# Altium footprint library WR-WTB.PcbLib: 259 footprints (part 7 of 17)
Each footprint in its own frame and in the unit in brackets; x right, y up, seen from the top. Pads: shape width x height; smd on the part's side, far side on the other; paste and mask are expansions set on the pad; w line width, h text height; cw(c..) or ccw(c..) is an arc to the next point about the centre after c.
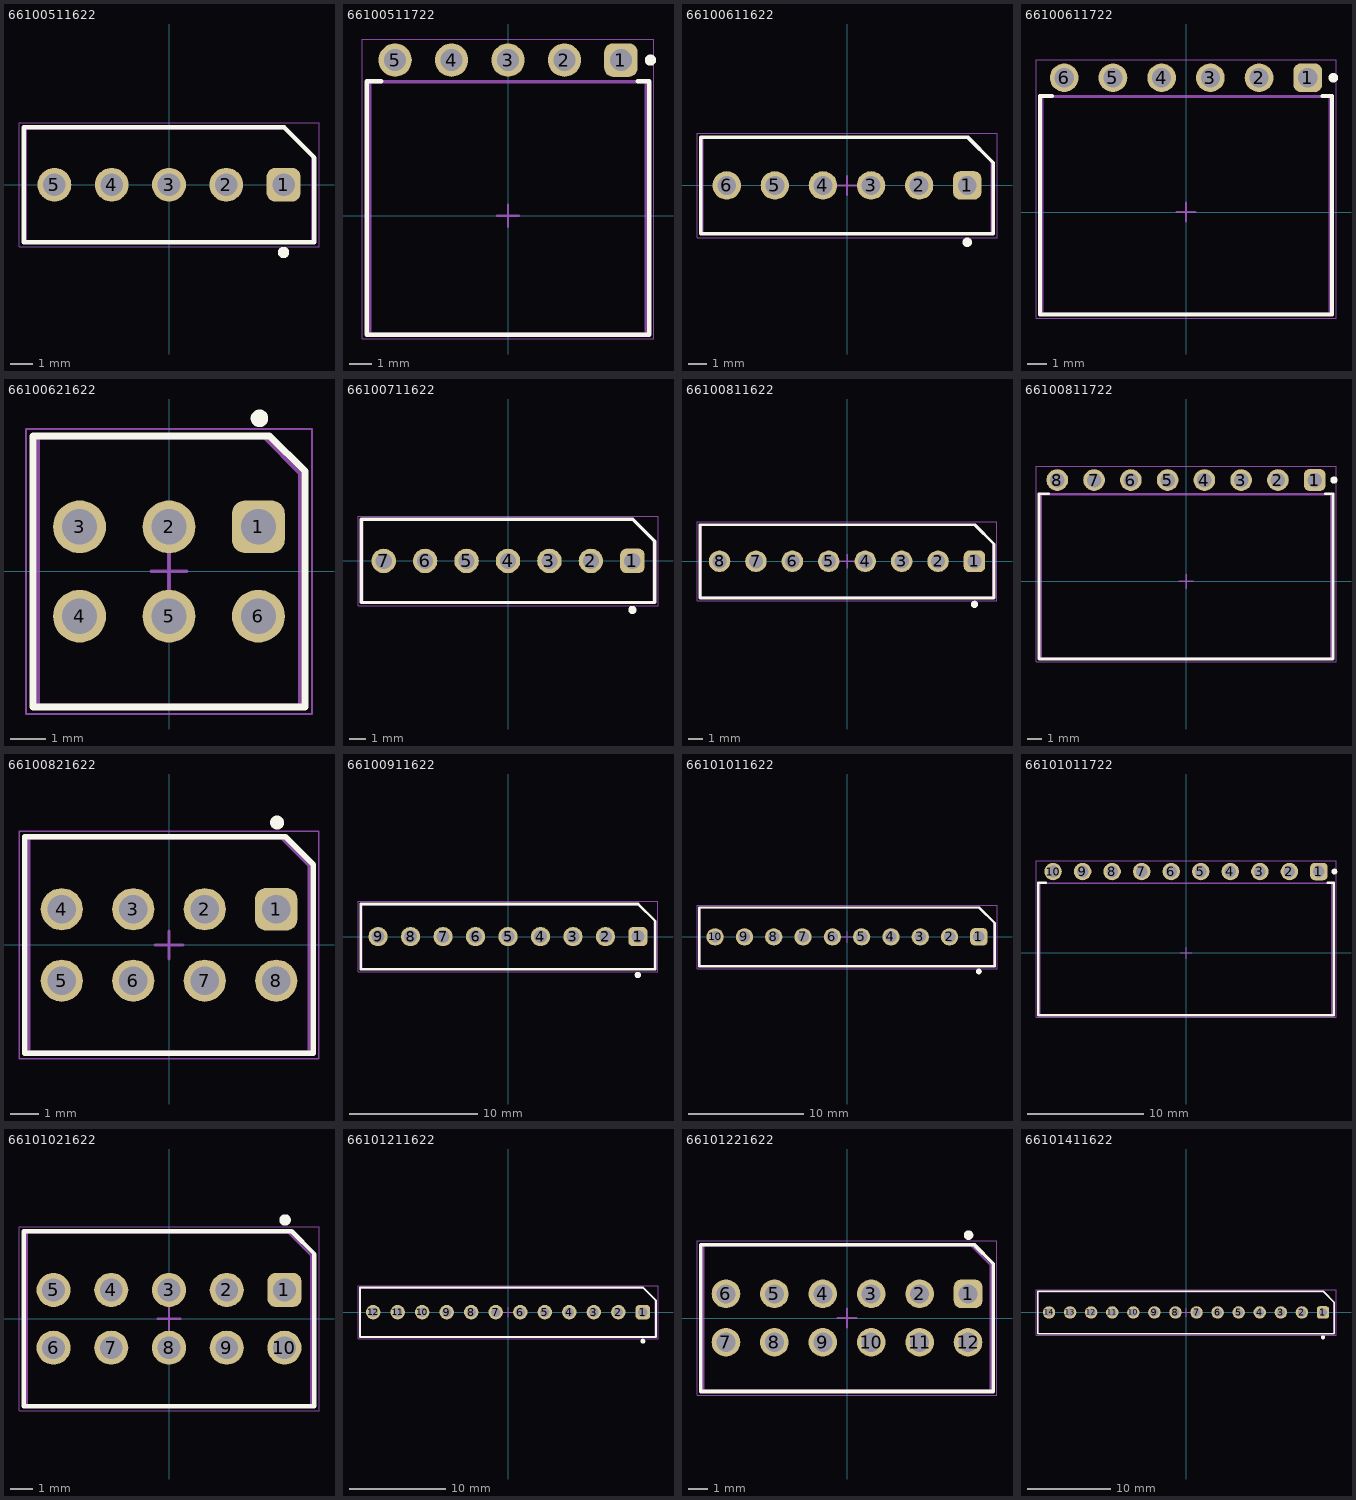
[diagram p6: the footprints below, top view; thin cyan lines are the x and y axes]

## 66100511622 [mm] "2.54 mm Intercom Male Horizontal Shrouded Header, 5p"
height 11.3
pads (5):
  rrect50% 1.5x1.5 hole 1: 1(5.08,0)
  round 1.5 hole 1: 2(2.54,0) 3(0,0) 4(-2.54,0) 5(-5.08,0)
Top Overlay:
  circle w0.25: c5.08,-3 r0.125
  lines w0.2: -6.45,-2.55 -6.45,2.55 5.1,2.55 6.45,1.2 6.45,-2.55 -6.45,-2.55
Top Assembly:
  lines w0.1: -6.35,-2.5 6.35,-2.5 6.35,1.3 5.15,2.5 -6.35,2.5 -6.35,-2.5
Top Designator:
  text ".Designator" at -3.647,-0.357 h1
Top Courtyard:
  lines w0.05: -6.65,-2.75 -6.65,2.75 6.65,2.75 6.65,-2.75 -6.65,-2.75
Top Component Center:
  lines w0.1: -0.5,0 0.5,0 ; 0,-0.5 0,0.5
3D body "66100511622.stp": height 11.33, standoff -2.97, extent -6.2,-2.5 6.2,2.5

## 66100511722 [mm] "2.54 mm Intercom Male Right Angled Shrouded Locking Header, 5p"
height 5
pads (5):
  rrect50% 1.5x1.5 hole 1: 1(5.08,7)
  round 1.5 hole 1: 2(2.54,7) 3(0,7) 4(-2.54,7) 5(-5.08,7)
Top Overlay:
  circle w0.25: c6.41,7 r0.125
  lines w0.2: -5.7,6.05 -6.35,6.05 -6.35,-5.35 6.35,-5.35 6.35,6.05 5.83,6.05
Top Assembly:
  lines w0.1: -6.35,-5.35 6.35,-5.35 6.35,6.05 -6.35,6.05 -6.35,-5.35
Top Designator:
  text ".Designator" at -3.647,-0.357 h1
Top 3D Body:
  lines w0.1: -6.2,-5.3 6.2,-5.3 6.2,6 -6.2,6 -6.2,-5.3
Top Courtyard:
  lines w0.05: -6.55,-5.55 -6.55,7.95 6.55,7.95 6.55,-5.55 -6.55,-5.55
Top Component Center:
  lines w0.1: -0.5,0 0.5,0 ; 0,-0.5 0,0.5
3D body "66100511722.stp": height 5.05, standoff -2.85, extent -6.2,-5.3 6.2,7.31

## 66100611622 [mm] "2.54 mm Intercom Male Horizontal Shrouded Header, 6p"
height 11.3
pads (6):
  rrect50% 1.5x1.5 hole 1: 1(6.35,0)
  round 1.5 hole 1: 2(3.81,0) 3(1.27,0) 4(-1.27,0) 5(-3.81,0) 6(-6.35,0)
Top Overlay:
  circle w0.25: c6.35,-3 r0.125
  lines w0.2: -7.72,-2.55 -7.72,2.55 6.37,2.55 7.72,1.2 7.72,-2.55 -7.72,-2.55
Top Assembly:
  lines w0.1: -7.62,-2.5 7.62,-2.5 7.62,1.3 6.42,2.5 -7.62,2.5 -7.62,-2.5
Top Designator:
  text ".Designator" at -3.647,-0.357 h1
Top Courtyard:
  lines w0.05: -7.92,-2.75 -7.92,2.75 7.92,2.75 7.92,-2.75 -7.92,-2.75
Top Component Center:
  lines w0.1: -0.5,0 0.5,0 ; 0,-0.5 0,0.5
3D body "66100611622.stp": height 11.32, standoff -2.98, extent -7.47,-2.5 7.47,2.5

## 66100611722 [mm] "2.54 mm Intercom Male Right Angled Shrouded Locking Header, 6p"
height 5
pads (6):
  rrect50% 1.5x1.5 hole 1: 1(6.35,7)
  round 1.5 hole 1: 2(3.81,7) 3(1.27,7) 4(-1.27,7) 5(-3.81,7) 6(-6.35,7)
Top Overlay:
  circle w0.25: c7.68,7 r0.125
  lines w0.2: -6.97,6.05 -7.62,6.05 -7.62,-5.35 7.62,-5.35 7.62,6.05 7.1,6.05
Top Assembly:
  lines w0.1: -7.62,-5.35 7.62,-5.35 7.62,6.05 -7.62,6.05 -7.62,-5.35
Top Designator:
  text ".Designator" at -3.647,-0.357 h1
Top 3D Body:
  lines w0.1: -7.47,-5.3 7.47,-5.3 7.47,6 -7.47,6 -7.47,-5.3
Top Courtyard:
  lines w0.05: -7.82,-5.55 -7.82,7.95 7.82,7.95 7.82,-5.55 -7.82,-5.55
Top Component Center:
  lines w0.1: -0.5,0 0.5,0 ; 0,-0.5 0,0.5
3D body "66100611722.stp": height 5.05, standoff -2.85, extent -7.47,-5.3 7.47,7.31

## 66100621622 [mm] "2.54mm Male Vertical Dual Row Header, 6p"
height 11.2
pads (6):
  rrect50% 1.5x1.5 hole 1: 1(2.54,1.27)
  round 1.5 hole 1: 2(0,1.27) 3(-2.54,1.27) 4(-2.54,-1.27) 5(0,-1.27) 6(2.54,-1.27)
Top Overlay:
  circle w0.25: c2.57,4.35 r0.125
  lines w0.2: 3.86,2.8 3.86,-3.85 -3.86,-3.85 -3.86,3.85 2.86,3.85 3.86,2.85
Top Assembly:
  lines w0.1: -3.71,-3.8 -3.71,3.8 2.71,3.8 3.71,2.8 3.71,-3.8 -3.71,-3.8
Top Designator:
  text ".Designator" at -3.647,-0.357 h1
Top Courtyard:
  lines w0.05: -4.06,-4.05 -4.06,4.05 4.06,4.05 4.06,-4.05 -4.06,-4.05
Top Component Center:
  lines w0.1: -0.5,0 0.5,0 ; 0,-0.5 0,0.5
3D body "66100621622.stp": height 11.22, standoff -2.88, extent -3.71,-3.8 3.71,3.8

## 66100711622 [mm] "2.54 mm Intercom Male Horizontal Shrouded Header, 7p"
height 11.3
pads (7):
  rrect50% 1.5x1.5 hole 1: 1(7.62,0)
  round 1.5 hole 1: 2(5.08,0) 3(2.54,0) 4(0,0) 5(-2.54,0) 6(-5.08,0) 7(-7.62,0)
Top Overlay:
  circle w0.25: c7.62,-3 r0.125
  lines w0.2: -8.99,-2.55 -8.99,2.55 7.64,2.55 8.99,1.2 8.99,-2.55 -8.99,-2.55
Top Assembly:
  lines w0.1: -8.89,-2.5 8.89,-2.5 8.89,1.3 7.69,2.5 -8.89,2.5 -8.89,-2.5
Top Designator:
  text ".Designator" at -3.647,-0.357 h1
Top Courtyard:
  lines w0.05: -9.19,-2.75 -9.19,2.75 9.19,2.75 9.19,-2.75 -9.19,-2.75
Top Component Center:
  lines w0.1: -0.5,0 0.5,0 ; 0,-0.5 0,0.5
3D body "66100711622.stp": height 11.32, standoff -2.98, extent -8.74,-2.5 8.74,2.5

## 66100811622 [mm] "2.54 mm Intercom Male Horizontal Shrouded Header, 8p"
height 11.3
pads (8):
  rrect50% 1.5x1.5 hole 1: 1(8.89,0)
  round 1.5 hole 1: 2(6.35,0) 3(3.81,0) 4(1.27,0) 5(-1.27,0) 6(-3.81,0) 7(-6.35,0) 8(-8.89,0)
Top Overlay:
  circle w0.25: c8.89,-3 r0.125
  lines w0.2: -10.26,-2.55 -10.26,2.55 8.91,2.55 10.26,1.2 10.26,-2.55 -10.26,-2.55
Top Assembly:
  lines w0.1: -10.16,-2.5 10.16,-2.5 10.16,1.3 8.96,2.5 -10.16,2.5 -10.16,-2.5
Top Designator:
  text ".Designator" at -3.647,-0.357 h1
Top Courtyard:
  lines w0.05: -10.46,-2.75 -10.46,2.75 10.46,2.75 10.46,-2.75 -10.46,-2.75
Top Component Center:
  lines w0.1: -0.5,0 0.5,0 ; 0,-0.5 0,0.5
3D body "66100811622.stp": height 11.33, standoff -2.97, extent -10.01,-2.5 10.01,2.5

## 66100811722 [mm] "2.54 mm Intercom Male Right Angled Shrouded Locking Header, 8p"
height 5
pads (8):
  rrect50% 1.5x1.5 hole 1: 1(8.89,7)
  round 1.5 hole 1: 2(6.35,7) 3(3.81,7) 4(1.27,7) 5(-1.27,7) 6(-3.81,7) 7(-6.35,7) 8(-8.89,7)
Top Overlay:
  circle w0.25: c10.22,7 r0.125
  lines w0.2: -9.51,6.05 -10.16,6.05 -10.16,-5.35 10.16,-5.35 10.16,6.05 9.64,6.05
Top Assembly:
  lines w0.1: -10.16,-5.35 -10.16,6.05 10.16,6.05 10.16,-5.35 -10.16,-5.35
Top Designator:
  text ".Designator" at -3.647,-0.357 h1
Top 3D Body:
  lines w0.1: -10.01,-5.3 -10.01,6 10.01,6 10.01,-5.3 -10.01,-5.3
Top Courtyard:
  lines w0.05: -10.36,-5.55 10.36,-5.55 10.36,7.95 -10.36,7.95 -10.36,-5.55
Top Component Center:
  lines w0.1: -0.5,0 0.5,0 ; 0,-0.5 0,0.5
3D body "66100811722.stp": height 5.05, standoff -2.85, extent -10.01,-5.3 10.01,7.31

## 66100821622 [mm] "2.54mm Male Vertical Dual Row Header, 8p"
height 11.2
pads (8):
  rrect50% 1.5x1.5 hole 1: 1(3.81,1.27)
  round 1.5 hole 1: 2(1.27,1.27) 3(-1.27,1.27) 4(-3.81,1.27) 5(-3.81,-1.27) 6(-1.27,-1.27) 7(1.27,-1.27) 8(3.81,-1.27)
Top Overlay:
  circle w0.25: c3.84,4.35 r0.125
  lines w0.2: 5.13,2.8 5.13,-3.85 -5.13,-3.85 -5.13,3.85 4.13,3.85 5.13,2.85
Top Assembly:
  lines w0.1: -4.98,-3.8 4.98,-3.8 4.98,2.8 3.98,3.8 -4.98,3.8 -4.98,-3.8
Top Designator:
  text ".Designator" at -3.647,-0.357 h1
Top Courtyard:
  lines w0.05: -5.33,-4.05 5.33,-4.05 5.33,4.05 -5.33,4.05 -5.33,-4.05
Top Component Center:
  lines w0.1: -0.5,0 0.5,0 ; 0,-0.5 0,0.5
3D body "66100821622.stp": height 11.22, standoff -2.88, extent -4.98,-3.8 4.98,3.8

## 66100911622 [mm] "2.54 mm Intercom Male Horizontal Shrouded Header, 9p"
height 11.3
pads (9):
  rrect50% 1.5x1.5 hole 1: 1(10.16,0)
  round 1.5 hole 1: 2(7.62,0) 3(5.08,0) 4(2.54,0) 5(0,0) 6(-2.54,0) 7(-5.08,0) 8(-7.62,0) 9(-10.16,0)
Top Overlay:
  circle w0.25: c10.16,-3 r0.125
  lines w0.2: -11.53,-2.55 -11.53,2.55 10.18,2.55 11.53,1.2 11.53,-2.55 -11.53,-2.55
Top Assembly:
  lines w0.1: -11.43,-2.5 11.43,-2.5 11.43,1.3 10.23,2.5 -11.43,2.5 -11.43,-2.5
Top Designator:
  text ".Designator" at -3.647,-0.357 h1
Top Courtyard:
  lines w0.05: -11.73,-2.75 -11.73,2.75 11.73,2.75 11.73,-2.75 -11.73,-2.75
Top Component Center:
  lines w0.1: -0.5,0 0.5,0 ; 0,-0.5 0,0.5
3D body "66100911622.stp": height 11.32, standoff -2.98, extent -11.28,-2.54 11.28,2.46

## 66101011622 [mm] "2.54 mm Intercom Male Horizontal Shrouded Header, 10p"
height 11.3
pads (10):
  rrect50% 1.5x1.5 hole 1: 1(11.43,0)
  round 1.5 hole 1: 2(8.89,0) 3(6.35,0) 4(3.81,0) 5(1.27,0) 6(-1.27,0) 7(-3.81,0) 8(-6.35,0) 9(-8.89,0) 10(-11.43,0)
Top Overlay:
  circle w0.25: c11.43,-3 r0.125
  lines w0.2: -12.8,-2.55 12.8,-2.55 12.8,1.2 11.45,2.55 -12.8,2.55 -12.8,-2.55
Top Assembly:
  lines w0.1: -12.7,-2.5 -12.7,2.5 11.5,2.5 12.7,1.3 12.7,-2.5 -12.7,-2.5
Top Designator:
  text ".Designator" at -3.647,-0.357 h1
Top Courtyard:
  lines w0.05: -13,-2.75 13,-2.75 13,2.75 -13,2.75 -13,-2.75
Top Component Center:
  lines w0.1: -0.5,0 0.5,0 ; 0,-0.5 0,0.5
3D body "66101011622.stp": height 11.33, standoff -2.97, extent -12.55,-2.5 12.55,2.5

## 66101011722 [mm] "2.54 mm Intercom Male Right Angled Shrouded Locking Header, 10p"
height 5
pads (10):
  rrect50% 1.5x1.5 hole 1: 1(11.43,7)
  round 1.5 hole 1: 2(8.89,7) 3(6.35,7) 4(3.81,7) 5(1.27,7) 6(-1.27,7) 7(-3.81,7) 8(-6.35,7) 9(-8.89,7) 10(-11.43,7)
Top Overlay:
  circle w0.25: c12.76,7 r0.125
  lines w0.2: -12.05,6.05 -12.7,6.05 -12.7,-5.35 12.7,-5.35 12.7,6.05 12.18,6.05
Top Assembly:
  lines w0.1: -12.7,-5.35 12.7,-5.35 12.7,6.05 -12.7,6.05 -12.7,-5.35
Top Designator:
  text ".Designator" at -3.647,-0.357 h1
Top 3D Body:
  lines w0.1: -12.55,-5.3 12.55,-5.3 12.55,6 -12.55,6 -12.55,-5.3
Top Courtyard:
  lines w0.05: -12.9,-5.55 -12.9,7.95 12.9,7.95 12.9,-5.55 -12.9,-5.55
Top Component Center:
  lines w0.1: -0.5,0 0.5,0 ; 0,-0.5 0,0.5
3D body "66101011722.stp": height 5.05, standoff -2.85, extent -12.55,-5.3 12.55,7.31

## 66101021622 [mm] "2.54mm Male Vertical Dual Row Header, 10p"
height 11.2
pads (10):
  rrect50% 1.5x1.5 hole 1: 1(5.08,1.27)
  round 1.5 hole 1: 2(2.54,1.27) 3(0,1.27) 4(-2.54,1.27) 5(-5.08,1.27) 6(-5.08,-1.27) 7(-2.54,-1.27) 8(0,-1.27) 9(2.54,-1.27) 10(5.08,-1.27)
Top Overlay:
  circle w0.25: c5.11,4.35 r0.125
  lines w0.2: 6.4,2.8 6.4,-3.85 -6.4,-3.85 -6.4,3.85 5.4,3.85 6.4,2.85
Top Assembly:
  lines w0.1: -6.25,-3.8 -6.25,3.8 5.25,3.8 6.25,2.8 6.25,-3.8 -6.25,-3.8
Top Designator:
  text ".Designator" at -3.647,-0.357 h1
Top Courtyard:
  lines w0.05: -6.6,-4.05 -6.6,4.05 6.6,4.05 6.6,-4.05 -6.6,-4.05
Top Component Center:
  lines w0.1: -0.5,0 0.5,0 ; 0,-0.5 0,0.5
3D body "66101021622.stp": height 11.22, standoff -2.88, extent -6.25,-3.8 6.25,3.8

## 66101211622 [mm] "2.54 mm Intercom Male Horizontal Shrouded Header, 12p"
height 11.3
pads (12):
  rrect50% 1.5x1.5 hole 1: 1(13.97,0)
  round 1.5 hole 1: 2(11.43,0) 3(8.89,0) 4(6.35,0) 5(3.81,0) 6(1.27,0) 7(-1.27,0) 8(-3.81,0) 9(-6.35,0) 10(-8.89,0) 11(-11.43,0) 12(-13.97,0)
Top Overlay:
  circle w0.25: c13.97,-3 r0.125
  lines w0.2: -15.34,-2.55 -15.34,2.55 13.99,2.55 15.34,1.2 15.34,-2.55 -15.34,-2.55
Top Assembly:
  lines w0.1: -15.24,-2.5 15.24,-2.5 15.24,1.3 14.04,2.5 -15.24,2.5 -15.24,-2.5
Top Designator:
  text ".Designator" at -3.647,-0.357 h1
Top Courtyard:
  lines w0.05: -15.54,-2.75 -15.54,2.75 15.54,2.75 15.54,-2.75 -15.54,-2.75
Top Component Center:
  lines w0.1: -0.5,0 0.5,0 ; 0,-0.5 0,0.5
3D body "66101211622.stp": height 11.32, standoff -2.98, extent -15.09,-2.5 15.09,2.5

## 66101221622 [mm] "2.54mm Male Vertical Dual Row Header, 12p"
height 11.2
pads (12):
  rrect50% 1.5x1.5 hole 1: 1(6.35,1.27)
  round 1.5 hole 1: 2(3.81,1.27) 3(1.27,1.27) 4(-1.27,1.27) 5(-3.81,1.27) 6(-6.35,1.27) 7(-6.35,-1.27) 8(-3.81,-1.27) 9(-1.27,-1.27) 10(1.27,-1.27) 11(3.81,-1.27) 12(6.35,-1.27)
Top Overlay:
  circle w0.25: c6.38,4.35 r0.125
  lines w0.2: 7.67,2.8 7.67,-3.85 -7.67,-3.85 -7.67,3.85 6.67,3.85 7.67,2.85
Top Assembly:
  lines w0.1: -7.52,-3.8 7.52,-3.8 7.52,2.8 6.52,3.8 -7.52,3.8 -7.52,-3.8
Top Designator:
  text ".Designator" at -3.647,-0.357 h1
Top Courtyard:
  lines w0.05: -7.87,-4.05 7.87,-4.05 7.87,4.05 -7.87,4.05 -7.87,-4.05
Top Component Center:
  lines w0.1: -0.5,0 0.5,0 ; 0,-0.5 0,0.5
3D body "66101221622.stp": height 11.22, standoff -2.88, extent -7.52,-3.8 7.52,3.8

## 66101411622 [mm] "2.54 mm Intercom Male Horizontal Shrouded Header, 14p"
height 11.3
pads (14):
  rrect50% 1.5x1.5 hole 1: 1(16.51,0)
  round 1.5 hole 1: 2(13.97,0) 3(11.43,0) 4(8.89,0) 5(6.35,0) 6(3.81,0) 7(1.27,0) 8(-1.27,0) 9(-3.81,0) 10(-6.35,0) 11(-8.89,0) 12(-11.43,0) 13(-13.97,0) 14(-16.51,0)
Top Overlay:
  circle w0.25: c16.51,-3 r0.125
  lines w0.2: -17.88,-2.55 17.88,-2.55 17.88,1.2 16.53,2.55 -17.88,2.55 -17.88,-2.55
Top Assembly:
  lines w0.1: -17.78,-2.5 -17.78,2.5 16.58,2.5 17.78,1.3 17.78,-2.5 -17.78,-2.5
Top Designator:
  text ".Designator" at -3.647,-0.357 h1
Top Courtyard:
  lines w0.05: -18.08,-2.75 18.08,-2.75 18.08,2.75 -18.08,2.75 -18.08,-2.75
Top Component Center:
  lines w0.1: -0.5,0 0.5,0 ; 0,-0.5 0,0.5
3D body "66101411622.stp": height 11.32, standoff -2.98, extent -17.63,-2.5 17.63,2.5